# Altium schematic symbol library 100k 1W res TH.SchLib: 1 symbol
Pins are listed as number, name and electrical type; pins without a type are passive.

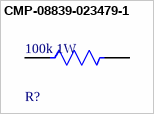
[diagram p0: symbol CMP-08839-023479-1]

## CMP-08839-023479-1
designator R?, comment 100k 1W
Thick Film Chip Resistor, 2512, 100kΩ, 5%, 200ppm/°C, 1W, 200V; Resistance: 100kR; Power Rating: 1W; Temperature Coefficient: 200ppm/°C; Width: 0.126inch; Package Quantity: 1; RoHS Compliant: Yes; Case Code (Metric): 6432; Case/Package: 2512; Max Operating Temperature: 125°C; Case Code (Imperial): 2512; Max Power Dissipation: 1W; Series: MCR; Length: 0.248inch; Number of Terminations: 2; Packaging: Tape and Reel; Voltage Rating (DC): 200V; Height: 0.028inch; Min Operating Temperature: -55°C; Resistor Type: Thick Film; Tolerance: 5%
footprint FP-RLP01-MFG
pins: 1, 2